# EAGLE library part 20-PIN-FRC-IDC (library Connectors)
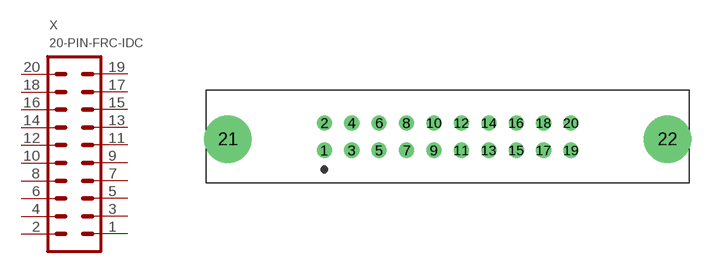
[diagram p3: symbol with the pads of 20-PIN-FRC-IDC; footprint 20-PIN-FRC-IDC]

Designator prefix X

## 20-PIN-FRC-IDC (DATASHEET: Value; DESCRIPTION: value; LINK: https://www.rhydolabz.com/hardwares-connectorssockets-c-170_77/20-pin-frc-idc-male-connector-with-latch-p-1139.html; MANUFACTURER: value; MPN: value; PACKAGE: Value)  [20-PIN-FRC-IDC]
1  1
2  2
3  3
4  4
5  5
6  6
7  7
8  8
9  9
10  10
11  11
12  12
13  13
14  14
15  15
16  16
17  17
18  18
19  19
20  20

## Footprint 20-PIN-FRC-IDC (pad centres in mm)
3M_N3428-6302RB
drill 0.889 pad 1.333: 1 0,0; 2 0,2.54; 3 2.54,0; 4 2.54,2.54; 5 5.08,0; 6 5.08,2.54; 7 7.62,0; 8 7.62,2.54; 9 10.16,0; 10 10.16,2.54; 11 12.7,0; 12 12.7,2.54; 13 15.24,0; 14 15.24,2.54; 15 17.78,0; 16 17.78,2.54; 17 20.32,0; 18 20.32,2.54; 19 22.86,0; 20 22.86,2.54
drill 2.946 pad 4.42: 21 -8.941,1.016; 22 31.801,1.016